# EAGLE library part SD_KUSKALLA (library SD_KUSKALLA)
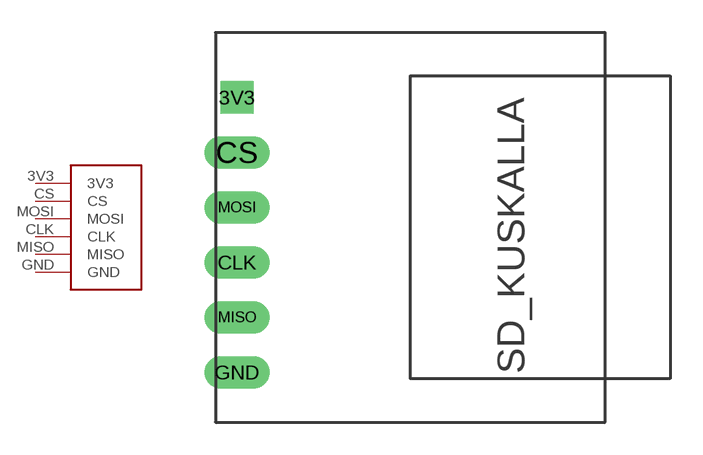
[diagram p0: symbol with the pads of SD_KUSKALLA; footprint SD_KUSKALLA]

Designator prefix -

## SD_KUSKALLA  [SD_KUSKALLA]
3V3  3V3
CLK  CLK
CS  CS
GND  GND
MISO  MISO
MOSI  MOSI

## Footprint SD_KUSKALLA (pad centres in mm)
drill 1 square: 3V3 -8,6
drill 1 long: CLK -8,-1.62; CS -8,3.46; GND -8,-6.7; MISO -8,-4.16; MOSI -8,0.92